# EAGLE library part SHERLOCK-6POS (library hurst)
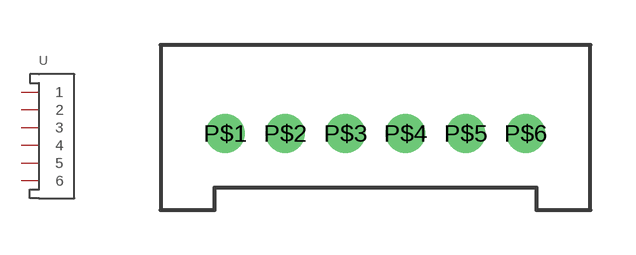
[diagram p4: symbol with the pads of SD-3562-06XX; footprint SD-3562-06XX]

Designator prefix -

## SHERLOCK-6POS  [SD-3562-06XX]
P$1  1
P$2  2
P$3  3
P$4  4
P$5  5
P$6  6

## Footprint SD-3562-06XX (pad centres in mm)
drill 0.8 round: P$1 -5,0; P$2 -3,0; P$3 -1,0; P$4 1,0; P$5 3,0; P$6 5,0